# EAGLE library part DAQ_NI (library ecar)
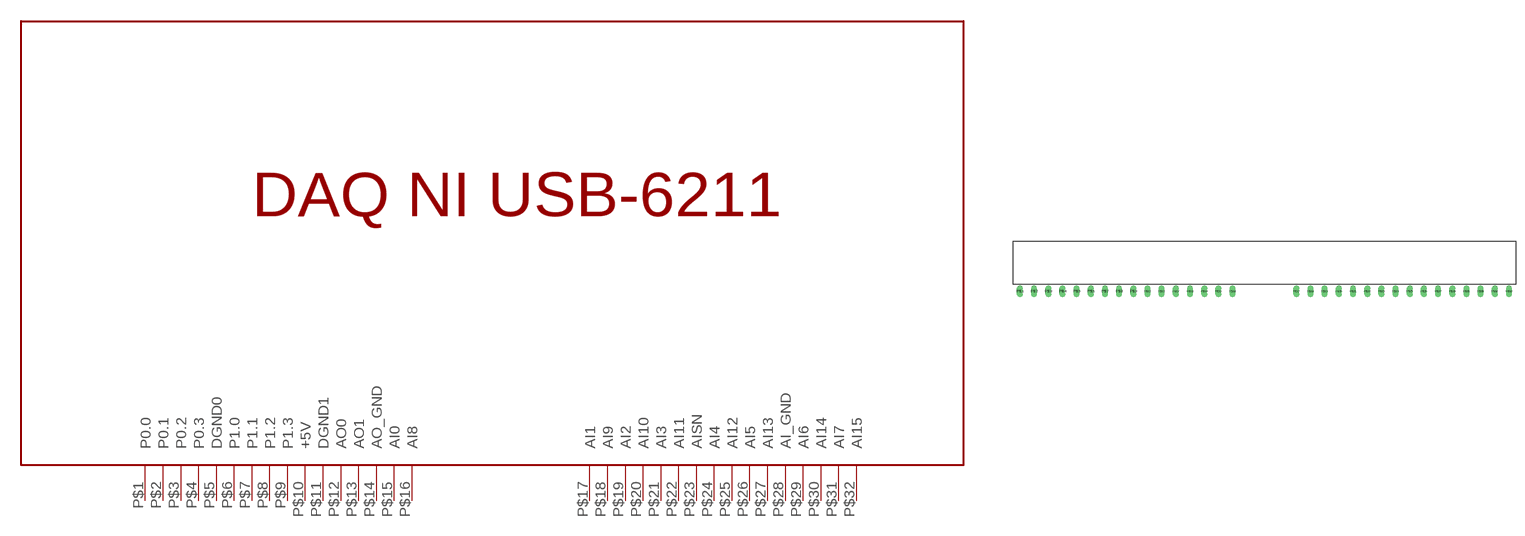
[diagram p1: symbol with the pads of DAQNIUSB-6211; footprint DAQNIUSB-6211]

Designator prefix -

## DAQ_NI  [DAQNIUSB-6211]
P$1  P0.0
P$2  P0.1
P$3  P0.2
P$4  P0.3
P$5  DGND0
P$6  P1.0
P$7  P1.1
P$8  P1.2
P$9  P1.3
P$10  +5V
P$11  DGND1
P$12  AO0
P$13  AO1
P$14  AO_GND
P$15  AI0
P$16  AI8
P$17  AI1
P$18  AI9
P$19  AI2
P$20  AI10
P$21  AI3
P$22  AI11
P$23  AISN
P$24  AI4
P$25  AI12
P$26  AI5
P$27  AI13
P$28  AI_GND
P$29  AI6
P$30  AI14
P$31  AI7
P$32  AI15

## Footprint DAQNIUSB-6211 (pad centres in mm)
drill 0.6 long: P$1 -88.9,-1.27; P$2 -86.36,-1.27; P$3 -83.82,-1.27; P$4 -81.28,-1.27; P$5 -78.74,-1.27; P$6 -76.2,-1.27; P$7 -73.66,-1.27; P$8 -71.12,-1.27; P$9 -68.58,-1.27; P$10 -66.04,-1.27; P$11 -63.5,-1.27; P$12 -60.96,-1.27; P$13 -58.42,-1.27; P$14 -55.88,-1.27; P$15 -53.34,-1.27; P$16 -50.8,-1.27; P$17 -39.37,-1.27; P$18 -36.83,-1.27; P$19 -34.29,-1.27; P$20 -31.75,-1.27; P$21 -29.21,-1.27; P$22 -26.67,-1.27; P$23 -24.13,-1.27; P$24 -21.59,-1.27; P$25 -19.05,-1.27; P$26 -16.51,-1.27; P$27 -13.97,-1.27; P$28 -11.43,-1.27; P$29 -8.89,-1.27; P$30 -6.35,-1.27; P$31 -3.81,-1.27; P$32 -1.27,-1.27